# Altium footprint library DIOM7959X250N.PcbLib: 1 footprints
Each footprint in its own frame and in the unit in brackets; x right, y up, seen from the top. Pads: shape width x height; smd on the part's side, far side on the other; paste and mask are expansions set on the pad; w line width, h text height; cw(c..) or ccw(c..) is an arc to the next point about the centre after c.
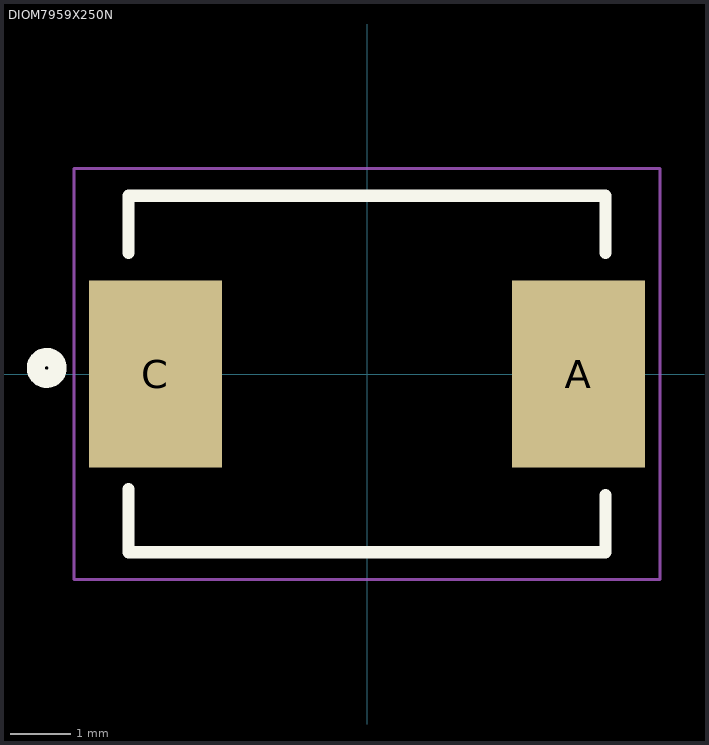
[diagram p0: the footprint, top view; thin cyan lines are the x and y axes]

## DIOM7959X250N [mm]
pads (2):
  rect 2.2x3.1 smd: A(3.5,0) C(-3.5,0)
Top Overlay:
  circle w0.3: c-5.3,0.1 r0.18
  lines w0.2: -3.95,-1.9 -3.95,-2.95 3.95,-2.95 3.95,-2 ; -3.95,2 -3.95,2.95 3.95,2.95 3.95,2
Mechanical 16:
  lines w0.05: -4.85,-3.4 -4.85,3.4 4.85,3.4 4.85,-3.4 -4.85,-3.4